# EAGLE library part UCC27512DRSR (library UCC27512DRSR)
4A/8A Single Channel High-speed Low-side Gate Driver <https://store.ti.com/Assets/ProductImages/ucc27512.jpg> Source: Datasheet <http://www.ti.com/lit/gpn/ucc27512>
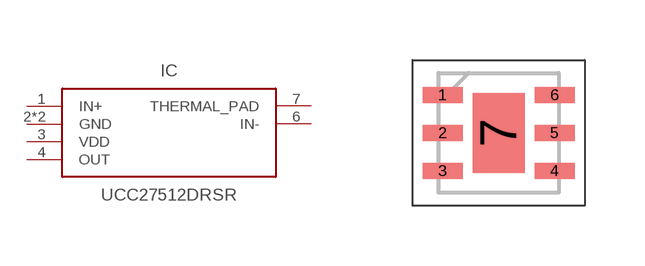
[diagram p0: symbol with the pads of SON95P300X300X80-7N; footprint SON95P300X300X80-7N]

Designator prefix IC

## UCC27512DRSR (DESCRIPTION: 4A/8A Single Channel High-speed Low-side Gate Driver; HEIGHT: 0.8mm; MANUFACTURER_NAME: Texas Instruments; MANUFACTURER_PART_NUMBER: UCC27512DRSR; SUPPLIER_NAME: RS)  [SON95P300X300X80-7N]
1  IN+  pas
2  GND  pas
3  VDD  pas
4  OUT  pas
5  GND  pas
6  IN-  pas
7  THERMAL_PAD  pas

## Footprint SON95P300X300X80-7N (pad centres in mm)
DRS (S-PWSON-N6)
smd 1 x 0.4: 1 -1.4,0.95; 2 -1.4,0; 3 -1.4,-0.95; 4 1.4,-0.95; 5 1.4,0; 6 1.4,0.95
smd 1.3 x 2: 7 0,0